# Altium schematic symbol library ICM42688P.SchLib: 1 symbol
Pins are listed as number, name and electrical type; pins without a type are passive.

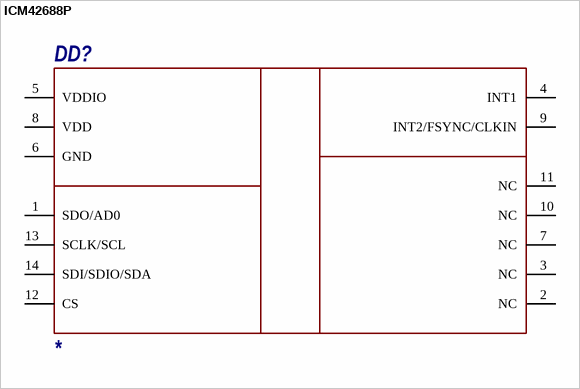
[diagram p0: symbol ICM42688P]

## ICM42688P
designator DD?
pins: 1 SDO/AD0, 2 NC, 3 NC, 4 INT1, 5 VDDIO, 6 GND, 7 NC, 8 VDD, 9 INT2/FSYNC/CLKIN, 10 NC, 11 NC, 12 CS, 13 SCLK/SCL, 14 SDI/SDIO/SDA